# EAGLE library part TXS0104E (library alvie)
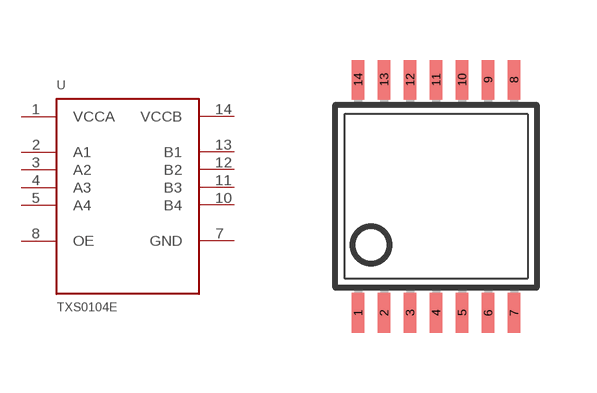
[diagram p21: symbol with the pads of TSSOP14; footprint TSSOP14]

Designator prefix -

## TXS0104EPWR  [TSSOP14]
1  VCCA  pwr
2  A1
3  A2
4  A3
5  A4
7  GND  pwr
8  OE  in
10  B4
11  B3
12  B2
13  B1
14  VCCB  pwr

## Footprint TSSOP14 (pad centres in mm)
smd 0.305 x 0.991: 1 -1.95,-2.918; 2 -1.3,-2.918; 3 -0.65,-2.918; 4 0,-2.918; 5 0.65,-2.918; 6 1.3,-2.918; 7 1.95,-2.918; 8 1.95,2.918; 9 1.3,2.918; 10 0.65,2.918; 11 0,2.918; 12 -0.65,2.918; 13 -1.3,2.918; 14 -1.95,2.918